# Altium integrated library Wurth_Elektronik_Passive_rev16a.IntLib: 1143 symbols (part 19 of 28)
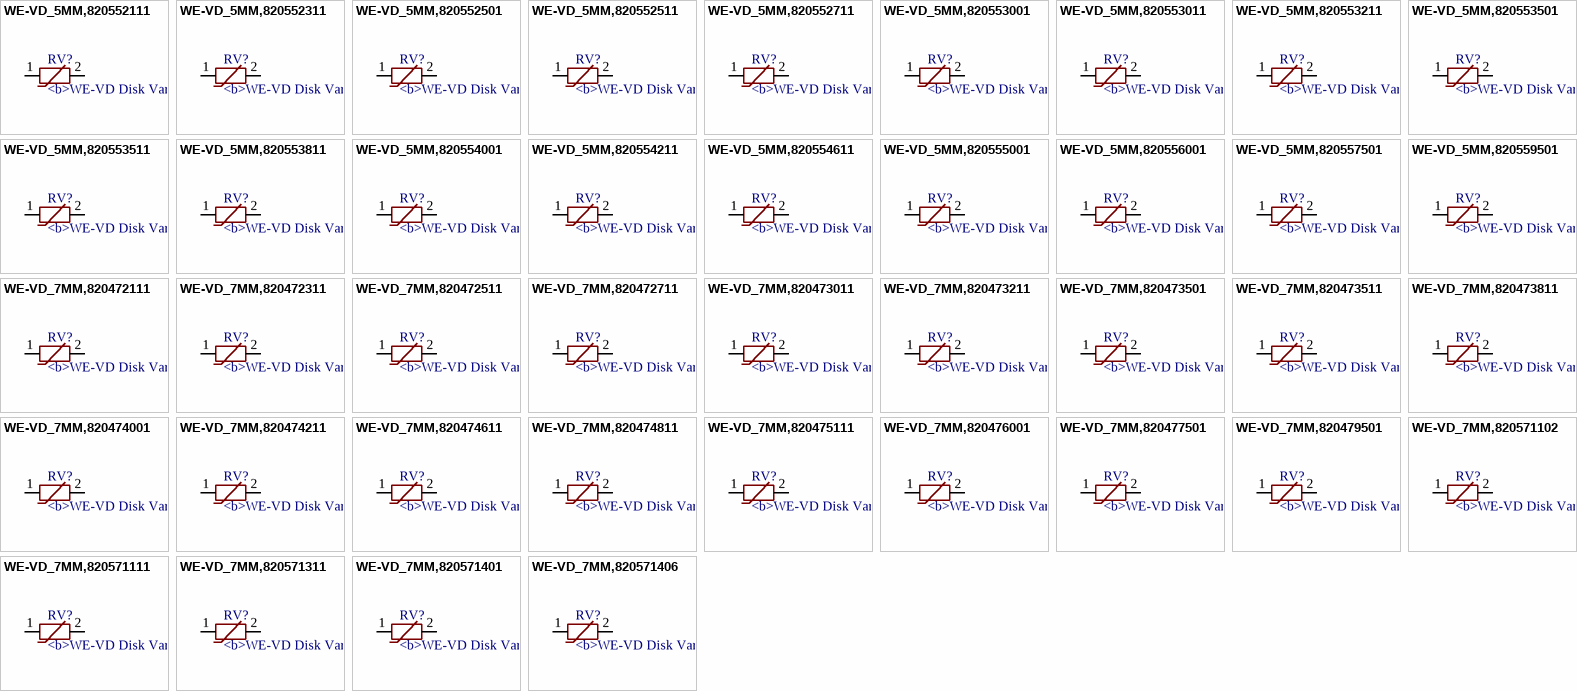
[diagram p76: symbols WE-VD_5MM,820552111 to WE-VD_7MM,820571406]

## WE-VD_5MM,820552711
designator RV?, comment <b>WE-VD Disk Varistor / <br> / <br> / <br><b>Characteristics / <br> / <br></b></b> Low clamping voltage / <br> / <br> After a surge impulse the varistor works immediately in normal mode so there is no slip current / <br> / <br> Excellent absorption at surge impulses / <br> / <br> Operating temperature: –40 ºC to +85 ºC for types up to 95 VRMS –40 ºC to +125 ºC for types from 115 VRMS / <br> / <br> Response time < 25 ns / <br> / <br> UL1449 3rd Edition, CSA and VDE approved UL: File E332875 CSA: File 224856 VDE: File 40016986 and 40016998 IEC: 60950-1: 2005 Annex Q from ∅ 10 mm / <br> / <br> / <br><b> Applications / <br> / <br></b> 12–48 VDC distribution / <br> / <br> 110–400 V power supply / <br> / <br> Leakage of voltage peaks / <br> / <br> Surge protection in accordance with EN 61000-4-5 / <br> / <br> / <br> / <br><a href="http://katalog.we-online.de/media/images/eisos/VarVD_pf2.jpg" title="Enlarge picture"> / <img src="http://katalog.we-online.de/media/images/eisos/VarVD_pf2.jpg" width="320"></a><p> / Details see: <a href="http://katalog.we-online.de/en/pbs/WE-VD?">http://katalog.we-online.de/en/pbs/WE-VD?</a><p> / Updated  by  Dan Xu 2014-07-11<br> / 2014 (C) Wurth Elektronik
MANUFACTURER: Würth Elektronik eiSos GmbH; CREATED-BY: Christin Zierenner; COMPANY-URL: http://www.we-online.de; CREATED-DATE: May 2012; DATASHEET-URL: http://katalog.we-online.de/kataloge/eisos/media/pdf/820552711.pdf
footprint WE-VD_5MM-1.5
pins: 1, 2

## WE-VD_5MM,820553001
designator RV?, comment <b>WE-VD Disk Varistor / <br> / <br> / <br><b>Characteristics / <br> / <br></b></b> Low clamping voltage / <br> / <br> After a surge impulse the varistor works immediately in normal mode so there is no slip current / <br> / <br> Excellent absorption at surge impulses / <br> / <br> Operating temperature: –40 ºC to +85 ºC for types up to 95 VRMS –40 ºC to +125 ºC for types from 115 VRMS / <br> / <br> Response time < 25 ns / <br> / <br> UL1449 3rd Edition, CSA and VDE approved UL: File E332875 CSA: File 224856 VDE: File 40016986 and 40016998 IEC: 60950-1: 2005 Annex Q from ∅ 10 mm / <br> / <br> / <br><b> Applications / <br> / <br></b> 12–48 VDC distribution / <br> / <br> 110–400 V power supply / <br> / <br> Leakage of voltage peaks / <br> / <br> Surge protection in accordance with EN 61000-4-5 / <br> / <br> / <br> / <br><a href="http://katalog.we-online.de/media/images/eisos/VarVD_pf2.jpg" title="Enlarge picture"> / <img src="http://katalog.we-online.de/media/images/eisos/VarVD_pf2.jpg" width="320"></a><p> / Details see: <a href="http://katalog.we-online.de/en/pbs/WE-VD?">http://katalog.we-online.de/en/pbs/WE-VD?</a><p> / Updated  by  Dan Xu 2014-07-11<br> / 2014 (C) Wurth Elektronik
MANUFACTURER: Würth Elektronik eiSos GmbH; CREATED-BY: Christin Zierenner; COMPANY-URL: http://www.we-online.de; CREATED-DATE: May 2012; DATASHEET-URL: http://katalog.we-online.de/kataloge/eisos/index.php?language=en&pf=WE-VD
footprint WE-VD_5MM-DIA
pins: 1, 2

## WE-VD_5MM,820553011
designator RV?, comment <b>WE-VD Disk Varistor / <br> / <br> / <br><b>Characteristics / <br> / <br></b></b> Low clamping voltage / <br> / <br> After a surge impulse the varistor works immediately in normal mode so there is no slip current / <br> / <br> Excellent absorption at surge impulses / <br> / <br> Operating temperature: –40 ºC to +85 ºC for types up to 95 VRMS –40 ºC to +125 ºC for types from 115 VRMS / <br> / <br> Response time < 25 ns / <br> / <br> UL1449 3rd Edition, CSA and VDE approved UL: File E332875 CSA: File 224856 VDE: File 40016986 and 40016998 IEC: 60950-1: 2005 Annex Q from ∅ 10 mm / <br> / <br> / <br><b> Applications / <br> / <br></b> 12–48 VDC distribution / <br> / <br> 110–400 V power supply / <br> / <br> Leakage of voltage peaks / <br> / <br> Surge protection in accordance with EN 61000-4-5 / <br> / <br> / <br> / <br><a href="http://katalog.we-online.de/media/images/eisos/VarVD_pf2.jpg" title="Enlarge picture"> / <img src="http://katalog.we-online.de/media/images/eisos/VarVD_pf2.jpg" width="320"></a><p> / Details see: <a href="http://katalog.we-online.de/en/pbs/WE-VD?">http://katalog.we-online.de/en/pbs/WE-VD?</a><p> / Updated  by  Dan Xu 2014-07-11<br> / 2014 (C) Wurth Elektronik
MANUFACTURER: Würth Elektronik eiSos GmbH; CREATED-BY: Christin Zierenner; COMPANY-URL: http://www.we-online.de; CREATED-DATE: May 2012; DATASHEET-URL: http://katalog.we-online.de/kataloge/eisos/index.php?language=en&pf=WE-VD
footprint WE-VD_5MM-1.7
pins: 1, 2

## WE-VD_5MM,820553211
designator RV?, comment <b>WE-VD Disk Varistor / <br> / <br> / <br><b>Characteristics / <br> / <br></b></b> Low clamping voltage / <br> / <br> After a surge impulse the varistor works immediately in normal mode so there is no slip current / <br> / <br> Excellent absorption at surge impulses / <br> / <br> Operating temperature: –40 ºC to +85 ºC for types up to 95 VRMS –40 ºC to +125 ºC for types from 115 VRMS / <br> / <br> Response time < 25 ns / <br> / <br> UL1449 3rd Edition, CSA and VDE approved UL: File E332875 CSA: File 224856 VDE: File 40016986 and 40016998 IEC: 60950-1: 2005 Annex Q from ∅ 10 mm / <br> / <br> / <br><b> Applications / <br> / <br></b> 12–48 VDC distribution / <br> / <br> 110–400 V power supply / <br> / <br> Leakage of voltage peaks / <br> / <br> Surge protection in accordance with EN 61000-4-5 / <br> / <br> / <br> / <br><a href="http://katalog.we-online.de/media/images/eisos/VarVD_pf2.jpg" title="Enlarge picture"> / <img src="http://katalog.we-online.de/media/images/eisos/VarVD_pf2.jpg" width="320"></a><p> / Details see: <a href="http://katalog.we-online.de/en/pbs/WE-VD?">http://katalog.we-online.de/en/pbs/WE-VD?</a><p> / Updated  by  Dan Xu 2014-07-11<br> / 2014 (C) Wurth Elektronik
MANUFACTURER: Würth Elektronik eiSos GmbH; CREATED-BY: Christin Zierenner; COMPANY-URL: http://www.we-online.de; CREATED-DATE: May 2012; DATASHEET-URL: http://katalog.we-online.de/kataloge/eisos/index.php?language=en&pf=WE-VD
footprint WE-VD_5MM-1.8
pins: 1, 2

## WE-VD_5MM,820553501
designator RV?, comment <b>WE-VD Disk Varistor / <br> / <br> / <br><b>Characteristics / <br> / <br></b></b> Low clamping voltage / <br> / <br> After a surge impulse the varistor works immediately in normal mode so there is no slip current / <br> / <br> Excellent absorption at surge impulses / <br> / <br> Operating temperature: –40 ºC to +85 ºC for types up to 95 VRMS –40 ºC to +125 ºC for types from 115 VRMS / <br> / <br> Response time < 25 ns / <br> / <br> UL1449 3rd Edition, CSA and VDE approved UL: File E332875 CSA: File 224856 VDE: File 40016986 and 40016998 IEC: 60950-1: 2005 Annex Q from ∅ 10 mm / <br> / <br> / <br><b> Applications / <br> / <br></b> 12–48 VDC distribution / <br> / <br> 110–400 V power supply / <br> / <br> Leakage of voltage peaks / <br> / <br> Surge protection in accordance with EN 61000-4-5 / <br> / <br> / <br> / <br><a href="http://katalog.we-online.de/media/images/eisos/VarVD_pf2.jpg" title="Enlarge picture"> / <img src="http://katalog.we-online.de/media/images/eisos/VarVD_pf2.jpg" width="320"></a><p> / Details see: <a href="http://katalog.we-online.de/en/pbs/WE-VD?">http://katalog.we-online.de/en/pbs/WE-VD?</a><p> / Updated  by  Dan Xu 2014-07-11<br> / 2014 (C) Wurth Elektronik
MANUFACTURER: Würth Elektronik eiSos GmbH; CREATED-BY: Christin Zierenner; COMPANY-URL: http://www.we-online.de; CREATED-DATE: May 2012; DATASHEET-URL: http://katalog.we-online.de/kataloge/eisos/index.php?language=en&pf=WE-VD
footprint WE-VD_5MM-1.1
pins: 1, 2

## WE-VD_5MM,820553511
designator RV?, comment <b>WE-VD Disk Varistor / <br> / <br> / <br><b>Characteristics / <br> / <br></b></b> Low clamping voltage / <br> / <br> After a surge impulse the varistor works immediately in normal mode so there is no slip current / <br> / <br> Excellent absorption at surge impulses / <br> / <br> Operating temperature: –40 ºC to +85 ºC for types up to 95 VRMS –40 ºC to +125 ºC for types from 115 VRMS / <br> / <br> Response time < 25 ns / <br> / <br> UL1449 3rd Edition, CSA and VDE approved UL: File E332875 CSA: File 224856 VDE: File 40016986 and 40016998 IEC: 60950-1: 2005 Annex Q from ∅ 10 mm / <br> / <br> / <br><b> Applications / <br> / <br></b> 12–48 VDC distribution / <br> / <br> 110–400 V power supply / <br> / <br> Leakage of voltage peaks / <br> / <br> Surge protection in accordance with EN 61000-4-5 / <br> / <br> / <br> / <br><a href="http://katalog.we-online.de/media/images/eisos/VarVD_pf2.jpg" title="Enlarge picture"> / <img src="http://katalog.we-online.de/media/images/eisos/VarVD_pf2.jpg" width="320"></a><p> / Details see: <a href="http://katalog.we-online.de/en/pbs/WE-VD?">http://katalog.we-online.de/en/pbs/WE-VD?</a><p> / Updated  by  Dan Xu 2014-07-11<br> / 2014 (C) Wurth Elektronik
MANUFACTURER: Würth Elektronik eiSos GmbH; CREATED-BY: Christin Zierenner; COMPANY-URL: http://www.we-online.de; CREATED-DATE: May 2012; DATASHEET-URL: http://katalog.we-online.de/kataloge/eisos/index.php?language=en&pf=WE-VD
footprint WE-VD_5MM-2.1
pins: 1, 2

## WE-VD_5MM,820553811
designator RV?, comment <b>WE-VD Disk Varistor / <br> / <br> / <br><b>Characteristics / <br> / <br></b></b> Low clamping voltage / <br> / <br> After a surge impulse the varistor works immediately in normal mode so there is no slip current / <br> / <br> Excellent absorption at surge impulses / <br> / <br> Operating temperature: –40 ºC to +85 ºC for types up to 95 VRMS –40 ºC to +125 ºC for types from 115 VRMS / <br> / <br> Response time < 25 ns / <br> / <br> UL1449 3rd Edition, CSA and VDE approved UL: File E332875 CSA: File 224856 VDE: File 40016986 and 40016998 IEC: 60950-1: 2005 Annex Q from ∅ 10 mm / <br> / <br> / <br><b> Applications / <br> / <br></b> 12–48 VDC distribution / <br> / <br> 110–400 V power supply / <br> / <br> Leakage of voltage peaks / <br> / <br> Surge protection in accordance with EN 61000-4-5 / <br> / <br> / <br> / <br><a href="http://katalog.we-online.de/media/images/eisos/VarVD_pf2.jpg" title="Enlarge picture"> / <img src="http://katalog.we-online.de/media/images/eisos/VarVD_pf2.jpg" width="320"></a><p> / Details see: <a href="http://katalog.we-online.de/en/pbs/WE-VD?">http://katalog.we-online.de/en/pbs/WE-VD?</a><p> / Updated  by  Dan Xu 2014-07-11<br> / 2014 (C) Wurth Elektronik
MANUFACTURER: Würth Elektronik eiSos GmbH; CREATED-BY: Christin Zierenner; COMPANY-URL: http://www.we-online.de; CREATED-DATE: May 2012; DATASHEET-URL: http://katalog.we-online.de/kataloge/eisos/media/pdf/820553811.pdf
footprint WE-VD_5MM-2.4
pins: 1, 2

## WE-VD_5MM,820554001
designator RV?, comment <b>WE-VD Disk Varistor / <br> / <br> / <br><b>Characteristics / <br> / <br></b></b> Low clamping voltage / <br> / <br> After a surge impulse the varistor works immediately in normal mode so there is no slip current / <br> / <br> Excellent absorption at surge impulses / <br> / <br> Operating temperature: –40 ºC to +85 ºC for types up to 95 VRMS –40 ºC to +125 ºC for types from 115 VRMS / <br> / <br> Response time < 25 ns / <br> / <br> UL1449 3rd Edition, CSA and VDE approved UL: File E332875 CSA: File 224856 VDE: File 40016986 and 40016998 IEC: 60950-1: 2005 Annex Q from ∅ 10 mm / <br> / <br> / <br><b> Applications / <br> / <br></b> 12–48 VDC distribution / <br> / <br> 110–400 V power supply / <br> / <br> Leakage of voltage peaks / <br> / <br> Surge protection in accordance with EN 61000-4-5 / <br> / <br> / <br> / <br><a href="http://katalog.we-online.de/media/images/eisos/VarVD_pf2.jpg" title="Enlarge picture"> / <img src="http://katalog.we-online.de/media/images/eisos/VarVD_pf2.jpg" width="320"></a><p> / Details see: <a href="http://katalog.we-online.de/en/pbs/WE-VD?">http://katalog.we-online.de/en/pbs/WE-VD?</a><p> / Updated  by  Dan Xu 2014-07-11<br> / 2014 (C) Wurth Elektronik
MANUFACTURER: Würth Elektronik eiSos GmbH; CREATED-BY: Christin Zierenner; COMPANY-URL: http://www.we-online.de; CREATED-DATE: May 2012; DATASHEET-URL: http://katalog.we-online.de/kataloge/eisos/media/pdf/820554001.pdf
footprint WE-VD_5MM-1.5
pins: 1, 2

## WE-VD_5MM,820554211
designator RV?, comment <b>WE-VD Disk Varistor / <br> / <br> / <br><b>Characteristics / <br> / <br></b></b> Low clamping voltage / <br> / <br> After a surge impulse the varistor works immediately in normal mode so there is no slip current / <br> / <br> Excellent absorption at surge impulses / <br> / <br> Operating temperature: –40 ºC to +85 ºC for types up to 95 VRMS –40 ºC to +125 ºC for types from 115 VRMS / <br> / <br> Response time < 25 ns / <br> / <br> UL1449 3rd Edition, CSA and VDE approved UL: File E332875 CSA: File 224856 VDE: File 40016986 and 40016998 IEC: 60950-1: 2005 Annex Q from ∅ 10 mm / <br> / <br> / <br><b> Applications / <br> / <br></b> 12–48 VDC distribution / <br> / <br> 110–400 V power supply / <br> / <br> Leakage of voltage peaks / <br> / <br> Surge protection in accordance with EN 61000-4-5 / <br> / <br> / <br> / <br><a href="http://katalog.we-online.de/media/images/eisos/VarVD_pf2.jpg" title="Enlarge picture"> / <img src="http://katalog.we-online.de/media/images/eisos/VarVD_pf2.jpg" width="320"></a><p> / Details see: <a href="http://katalog.we-online.de/en/pbs/WE-VD?">http://katalog.we-online.de/en/pbs/WE-VD?</a><p> / Updated  by  Dan Xu 2014-07-11<br> / 2014 (C) Wurth Elektronik
MANUFACTURER: Würth Elektronik eiSos GmbH; CREATED-BY: Christin Zierenner; COMPANY-URL: http://www.we-online.de; CREATED-DATE: May 2012; DATASHEET-URL: http://katalog.we-online.de/kataloge/eisos/index.php?language=en&pf=WE-VD
footprint WE-VD_5MM-2.7
pins: 1, 2

## WE-VD_5MM,820554611
designator RV?, comment <b>WE-VD Disk Varistor / <br> / <br> / <br><b>Characteristics / <br> / <br></b></b> Low clamping voltage / <br> / <br> After a surge impulse the varistor works immediately in normal mode so there is no slip current / <br> / <br> Excellent absorption at surge impulses / <br> / <br> Operating temperature: –40 ºC to +85 ºC for types up to 95 VRMS –40 ºC to +125 ºC for types from 115 VRMS / <br> / <br> Response time < 25 ns / <br> / <br> UL1449 3rd Edition, CSA and VDE approved UL: File E332875 CSA: File 224856 VDE: File 40016986 and 40016998 IEC: 60950-1: 2005 Annex Q from ∅ 10 mm / <br> / <br> / <br><b> Applications / <br> / <br></b> 12–48 VDC distribution / <br> / <br> 110–400 V power supply / <br> / <br> Leakage of voltage peaks / <br> / <br> Surge protection in accordance with EN 61000-4-5 / <br> / <br> / <br> / <br><a href="http://katalog.we-online.de/media/images/eisos/VarVD_pf2.jpg" title="Enlarge picture"> / <img src="http://katalog.we-online.de/media/images/eisos/VarVD_pf2.jpg" width="320"></a><p> / Details see: <a href="http://katalog.we-online.de/en/pbs/WE-VD?">http://katalog.we-online.de/en/pbs/WE-VD?</a><p> / Updated  by  Dan Xu 2014-07-11<br> / 2014 (C) Wurth Elektronik
MANUFACTURER: Würth Elektronik eiSos GmbH; CREATED-BY: Christin Zierenner; COMPANY-URL: http://www.we-online.de; CREATED-DATE: May 2012; DATASHEET-URL: http://katalog.we-online.de/kataloge/eisos/media/pdf/820554611.pdf
footprint WE-VD_5MM-3.0
pins: 1, 2

## WE-VD_5MM,820555001
designator RV?, comment <b>WE-VD Disk Varistor / <br> / <br> / <br><b>Characteristics / <br> / <br></b></b> Low clamping voltage / <br> / <br> After a surge impulse the varistor works immediately in normal mode so there is no slip current / <br> / <br> Excellent absorption at surge impulses / <br> / <br> Operating temperature: –40 ºC to +85 ºC for types up to 95 VRMS –40 ºC to +125 ºC for types from 115 VRMS / <br> / <br> Response time < 25 ns / <br> / <br> UL1449 3rd Edition, CSA and VDE approved UL: File E332875 CSA: File 224856 VDE: File 40016986 and 40016998 IEC: 60950-1: 2005 Annex Q from ∅ 10 mm / <br> / <br> / <br><b> Applications / <br> / <br></b> 12–48 VDC distribution / <br> / <br> 110–400 V power supply / <br> / <br> Leakage of voltage peaks / <br> / <br> Surge protection in accordance with EN 61000-4-5 / <br> / <br> / <br> / <br><a href="http://katalog.we-online.de/media/images/eisos/VarVD_pf2.jpg" title="Enlarge picture"> / <img src="http://katalog.we-online.de/media/images/eisos/VarVD_pf2.jpg" width="320"></a><p> / Details see: <a href="http://katalog.we-online.de/en/pbs/WE-VD?">http://katalog.we-online.de/en/pbs/WE-VD?</a><p> / Updated  by  Dan Xu 2014-07-11<br> / 2014 (C) Wurth Elektronik
MANUFACTURER: Würth Elektronik eiSos GmbH; CREATED-BY: Christin Zierenner; COMPANY-URL: http://www.we-online.de; CREATED-DATE: May 2012; DATASHEET-URL: http://katalog.we-online.de/kataloge/eisos/index.php?language=en&pf=WE-VD
footprint WE-VD_5MM-DIA
pins: 1, 2

## WE-VD_5MM,820556001
designator RV?, comment <b>WE-VD Disk Varistor / <br> / <br> / <br><b>Characteristics / <br> / <br></b></b> Low clamping voltage / <br> / <br> After a surge impulse the varistor works immediately in normal mode so there is no slip current / <br> / <br> Excellent absorption at surge impulses / <br> / <br> Operating temperature: –40 ºC to +85 ºC for types up to 95 VRMS –40 ºC to +125 ºC for types from 115 VRMS / <br> / <br> Response time < 25 ns / <br> / <br> UL1449 3rd Edition, CSA and VDE approved UL: File E332875 CSA: File 224856 VDE: File 40016986 and 40016998 IEC: 60950-1: 2005 Annex Q from ∅ 10 mm / <br> / <br> / <br><b> Applications / <br> / <br></b> 12–48 VDC distribution / <br> / <br> 110–400 V power supply / <br> / <br> Leakage of voltage peaks / <br> / <br> Surge protection in accordance with EN 61000-4-5 / <br> / <br> / <br> / <br><a href="http://katalog.we-online.de/media/images/eisos/VarVD_pf2.jpg" title="Enlarge picture"> / <img src="http://katalog.we-online.de/media/images/eisos/VarVD_pf2.jpg" width="320"></a><p> / Details see: <a href="http://katalog.we-online.de/en/pbs/WE-VD?">http://katalog.we-online.de/en/pbs/WE-VD?</a><p> / Updated  by  Dan Xu 2014-07-11<br> / 2014 (C) Wurth Elektronik
MANUFACTURER: Würth Elektronik eiSos GmbH; CREATED-BY: Christin Zierenner; COMPANY-URL: http://www.we-online.de; CREATED-DATE: May 2012; DATASHEET-URL: http://katalog.we-online.de/kataloge/eisos/media/pdf/820556001.pdf
footprint WE-VD_5MM-DIA
pins: 1, 2

## WE-VD_5MM,820557501
designator RV?, comment <b>WE-VD Disk Varistor / <br> / <br> / <br><b>Characteristics / <br> / <br></b></b> Low clamping voltage / <br> / <br> After a surge impulse the varistor works immediately in normal mode so there is no slip current / <br> / <br> Excellent absorption at surge impulses / <br> / <br> Operating temperature: –40 ºC to +85 ºC for types up to 95 VRMS –40 ºC to +125 ºC for types from 115 VRMS / <br> / <br> Response time < 25 ns / <br> / <br> UL1449 3rd Edition, CSA and VDE approved UL: File E332875 CSA: File 224856 VDE: File 40016986 and 40016998 IEC: 60950-1: 2005 Annex Q from ∅ 10 mm / <br> / <br> / <br><b> Applications / <br> / <br></b> 12–48 VDC distribution / <br> / <br> 110–400 V power supply / <br> / <br> Leakage of voltage peaks / <br> / <br> Surge protection in accordance with EN 61000-4-5 / <br> / <br> / <br> / <br><a href="http://katalog.we-online.de/media/images/eisos/VarVD_pf2.jpg" title="Enlarge picture"> / <img src="http://katalog.we-online.de/media/images/eisos/VarVD_pf2.jpg" width="320"></a><p> / Details see: <a href="http://katalog.we-online.de/en/pbs/WE-VD?">http://katalog.we-online.de/en/pbs/WE-VD?</a><p> / Updated  by  Dan Xu 2014-07-11<br> / 2014 (C) Wurth Elektronik
MANUFACTURER: Würth Elektronik eiSos GmbH; CREATED-BY: Christin Zierenner; COMPANY-URL: http://www.we-online.de; CREATED-DATE: May 2012; DATASHEET-URL: http://katalog.we-online.de/kataloge/eisos/index.php?language=en&pf=WE-VD
footprint WE-VD_5MM-DIA
pins: 1, 2

## WE-VD_5MM,820559501
designator RV?, comment <b>WE-VD Disk Varistor / <br> / <br> / <br><b>Characteristics / <br> / <br></b></b> Low clamping voltage / <br> / <br> After a surge impulse the varistor works immediately in normal mode so there is no slip current / <br> / <br> Excellent absorption at surge impulses / <br> / <br> Operating temperature: –40 ºC to +85 ºC for types up to 95 VRMS –40 ºC to +125 ºC for types from 115 VRMS / <br> / <br> Response time < 25 ns / <br> / <br> UL1449 3rd Edition, CSA and VDE approved UL: File E332875 CSA: File 224856 VDE: File 40016986 and 40016998 IEC: 60950-1: 2005 Annex Q from ∅ 10 mm / <br> / <br> / <br><b> Applications / <br> / <br></b> 12–48 VDC distribution / <br> / <br> 110–400 V power supply / <br> / <br> Leakage of voltage peaks / <br> / <br> Surge protection in accordance with EN 61000-4-5 / <br> / <br> / <br> / <br><a href="http://katalog.we-online.de/media/images/eisos/VarVD_pf2.jpg" title="Enlarge picture"> / <img src="http://katalog.we-online.de/media/images/eisos/VarVD_pf2.jpg" width="320"></a><p> / Details see: <a href="http://katalog.we-online.de/en/pbs/WE-VD?">http://katalog.we-online.de/en/pbs/WE-VD?</a><p> / Updated  by  Dan Xu 2014-07-11<br> / 2014 (C) Wurth Elektronik
MANUFACTURER: Würth Elektronik eiSos GmbH; CREATED-BY: Christin Zierenner; COMPANY-URL: http://www.we-online.de; CREATED-DATE: May 2012; DATASHEET-URL: http://katalog.we-online.de/kataloge/eisos/index.php?language=en&pf=WE-VD
footprint WE-VD_5MM-DIA
pins: 1, 2

## WE-VD_7MM,820472111
designator RV?, comment <b>WE-VD Disk Varistor / <br> / <br> / <br><b>Characteristics / <br> / <br></b></b> Low clamping voltage / <br> / <br> After a surge impulse the varistor works immediately in normal mode so there is no slip current / <br> / <br> Excellent absorption at surge impulses / <br> / <br> Operating temperature: –40 ºC to +85 ºC for types up to 95 VRMS –40 ºC to +125 ºC for types from 115 VRMS / <br> / <br> Response time < 25 ns / <br> / <br> UL1449 3rd Edition, CSA and VDE approved UL: File E332875 CSA: File 224856 VDE: File 40016986 and 40016998 IEC: 60950-1: 2005 Annex Q from ∅ 10 mm / <br> / <br> / <br><b> Applications / <br> / <br></b> 12–48 VDC distribution / <br> / <br> 110–400 V power supply / <br> / <br> Leakage of voltage peaks / <br> / <br> Surge protection in accordance with EN 61000-4-5 / <br> / <br> / <br> / <br><a href="http://katalog.we-online.de/media/images/eisos/VarVD_pf2.jpg" title="Enlarge picture"> / <img src="http://katalog.we-online.de/media/images/eisos/VarVD_pf2.jpg" width="320"></a><p> / Details see: <a href="http://katalog.we-online.de/en/pbs/WE-VD?">http://katalog.we-online.de/en/pbs/WE-VD?</a><p> / Updated  by  Dan Xu 2014-07-11<br> / 2014 (C) Wurth Elektronik
MANUFACTURER: Würth Elektronik eiSos GmbH; CREATED-BY: Christin Zierenner; COMPANY-URL: http://www.we-online.de; CREATED-DATE: May 2012; DATASHEET-URL: http://katalog.we-online.de/kataloge/eisos/index.php?language=en&pf=WE-VD
footprint WE-VD_7MM-1.0
pins: 1, 2

## WE-VD_7MM,820472311
designator RV?, comment <b>WE-VD Disk Varistor / <br> / <br> / <br><b>Characteristics / <br> / <br></b></b> Low clamping voltage / <br> / <br> After a surge impulse the varistor works immediately in normal mode so there is no slip current / <br> / <br> Excellent absorption at surge impulses / <br> / <br> Operating temperature: –40 ºC to +85 ºC for types up to 95 VRMS –40 ºC to +125 ºC for types from 115 VRMS / <br> / <br> Response time < 25 ns / <br> / <br> UL1449 3rd Edition, CSA and VDE approved UL: File E332875 CSA: File 224856 VDE: File 40016986 and 40016998 IEC: 60950-1: 2005 Annex Q from ∅ 10 mm / <br> / <br> / <br><b> Applications / <br> / <br></b> 12–48 VDC distribution / <br> / <br> 110–400 V power supply / <br> / <br> Leakage of voltage peaks / <br> / <br> Surge protection in accordance with EN 61000-4-5 / <br> / <br> / <br> / <br><a href="http://katalog.we-online.de/media/images/eisos/VarVD_pf2.jpg" title="Enlarge picture"> / <img src="http://katalog.we-online.de/media/images/eisos/VarVD_pf2.jpg" width="320"></a><p> / Details see: <a href="http://katalog.we-online.de/en/pbs/WE-VD?">http://katalog.we-online.de/en/pbs/WE-VD?</a><p> / Updated  by  Dan Xu 2014-07-11<br> / 2014 (C) Wurth Elektronik
MANUFACTURER: Würth Elektronik eiSos GmbH; CREATED-BY: Christin Zierenner; COMPANY-URL: http://www.we-online.de; CREATED-DATE: May 2012; DATASHEET-URL: http://katalog.we-online.de/kataloge/eisos/index.php?language=en&pf=WE-VD
footprint WE-VD_7MM-1.1
pins: 1, 2

## WE-VD_7MM,820472511
designator RV?, comment <b>WE-VD Disk Varistor / <br> / <br> / <br><b>Characteristics / <br> / <br></b></b> Low clamping voltage / <br> / <br> After a surge impulse the varistor works immediately in normal mode so there is no slip current / <br> / <br> Excellent absorption at surge impulses / <br> / <br> Operating temperature: –40 ºC to +85 ºC for types up to 95 VRMS –40 ºC to +125 ºC for types from 115 VRMS / <br> / <br> Response time < 25 ns / <br> / <br> UL1449 3rd Edition, CSA and VDE approved UL: File E332875 CSA: File 224856 VDE: File 40016986 and 40016998 IEC: 60950-1: 2005 Annex Q from ∅ 10 mm / <br> / <br> / <br><b> Applications / <br> / <br></b> 12–48 VDC distribution / <br> / <br> 110–400 V power supply / <br> / <br> Leakage of voltage peaks / <br> / <br> Surge protection in accordance with EN 61000-4-5 / <br> / <br> / <br> / <br><a href="http://katalog.we-online.de/media/images/eisos/VarVD_pf2.jpg" title="Enlarge picture"> / <img src="http://katalog.we-online.de/media/images/eisos/VarVD_pf2.jpg" width="320"></a><p> / Details see: <a href="http://katalog.we-online.de/en/pbs/WE-VD?">http://katalog.we-online.de/en/pbs/WE-VD?</a><p> / Updated  by  Dan Xu 2014-07-11<br> / 2014 (C) Wurth Elektronik
MANUFACTURER: Würth Elektronik eiSos GmbH; CREATED-BY: Christin Zierenner; COMPANY-URL: http://www.we-online.de; CREATED-DATE: May 2012; DATASHEET-URL: http://katalog.we-online.de/kataloge/eisos/index.php?language=en&pf=WE-VD
footprint WE-VD_7MM-1.3
pins: 1, 2

## WE-VD_7MM,820472711
designator RV?, comment <b>WE-VD Disk Varistor / <br> / <br> / <br><b>Characteristics / <br> / <br></b></b> Low clamping voltage / <br> / <br> After a surge impulse the varistor works immediately in normal mode so there is no slip current / <br> / <br> Excellent absorption at surge impulses / <br> / <br> Operating temperature: –40 ºC to +85 ºC for types up to 95 VRMS –40 ºC to +125 ºC for types from 115 VRMS / <br> / <br> Response time < 25 ns / <br> / <br> UL1449 3rd Edition, CSA and VDE approved UL: File E332875 CSA: File 224856 VDE: File 40016986 and 40016998 IEC: 60950-1: 2005 Annex Q from ∅ 10 mm / <br> / <br> / <br><b> Applications / <br> / <br></b> 12–48 VDC distribution / <br> / <br> 110–400 V power supply / <br> / <br> Leakage of voltage peaks / <br> / <br> Surge protection in accordance with EN 61000-4-5 / <br> / <br> / <br> / <br><a href="http://katalog.we-online.de/media/images/eisos/VarVD_pf2.jpg" title="Enlarge picture"> / <img src="http://katalog.we-online.de/media/images/eisos/VarVD_pf2.jpg" width="320"></a><p> / Details see: <a href="http://katalog.we-online.de/en/pbs/WE-VD?">http://katalog.we-online.de/en/pbs/WE-VD?</a><p> / Updated  by  Dan Xu 2014-07-11<br> / 2014 (C) Wurth Elektronik
MANUFACTURER: Würth Elektronik eiSos GmbH; CREATED-BY: Christin Zierenner; COMPANY-URL: http://www.we-online.de; CREATED-DATE: May 2012; DATASHEET-URL: http://katalog.we-online.de/kataloge/eisos/index.php?language=en&pf=WE-VD
footprint WE-VD_7MM-1.5
pins: 1, 2

## WE-VD_7MM,820473011
designator RV?, comment <b>WE-VD Disk Varistor / <br> / <br> / <br><b>Characteristics / <br> / <br></b></b> Low clamping voltage / <br> / <br> After a surge impulse the varistor works immediately in normal mode so there is no slip current / <br> / <br> Excellent absorption at surge impulses / <br> / <br> Operating temperature: –40 ºC to +85 ºC for types up to 95 VRMS –40 ºC to +125 ºC for types from 115 VRMS / <br> / <br> Response time < 25 ns / <br> / <br> UL1449 3rd Edition, CSA and VDE approved UL: File E332875 CSA: File 224856 VDE: File 40016986 and 40016998 IEC: 60950-1: 2005 Annex Q from ∅ 10 mm / <br> / <br> / <br><b> Applications / <br> / <br></b> 12–48 VDC distribution / <br> / <br> 110–400 V power supply / <br> / <br> Leakage of voltage peaks / <br> / <br> Surge protection in accordance with EN 61000-4-5 / <br> / <br> / <br> / <br><a href="http://katalog.we-online.de/media/images/eisos/VarVD_pf2.jpg" title="Enlarge picture"> / <img src="http://katalog.we-online.de/media/images/eisos/VarVD_pf2.jpg" width="320"></a><p> / Details see: <a href="http://katalog.we-online.de/en/pbs/WE-VD?">http://katalog.we-online.de/en/pbs/WE-VD?</a><p> / Updated  by  Dan Xu 2014-07-11<br> / 2014 (C) Wurth Elektronik
MANUFACTURER: Würth Elektronik eiSos GmbH; CREATED-BY: Christin Zierenner; COMPANY-URL: http://www.we-online.de; CREATED-DATE: May 2012; DATASHEET-URL: http://katalog.we-online.de/kataloge/eisos/index.php?language=en&pf=WE-VD
footprint WE-VD_7MM-1.7
pins: 1, 2

## WE-VD_7MM,820473211
designator RV?, comment <b>WE-VD Disk Varistor / <br> / <br> / <br><b>Characteristics / <br> / <br></b></b> Low clamping voltage / <br> / <br> After a surge impulse the varistor works immediately in normal mode so there is no slip current / <br> / <br> Excellent absorption at surge impulses / <br> / <br> Operating temperature: –40 ºC to +85 ºC for types up to 95 VRMS –40 ºC to +125 ºC for types from 115 VRMS / <br> / <br> Response time < 25 ns / <br> / <br> UL1449 3rd Edition, CSA and VDE approved UL: File E332875 CSA: File 224856 VDE: File 40016986 and 40016998 IEC: 60950-1: 2005 Annex Q from ∅ 10 mm / <br> / <br> / <br><b> Applications / <br> / <br></b> 12–48 VDC distribution / <br> / <br> 110–400 V power supply / <br> / <br> Leakage of voltage peaks / <br> / <br> Surge protection in accordance with EN 61000-4-5 / <br> / <br> / <br> / <br><a href="http://katalog.we-online.de/media/images/eisos/VarVD_pf2.jpg" title="Enlarge picture"> / <img src="http://katalog.we-online.de/media/images/eisos/VarVD_pf2.jpg" width="320"></a><p> / Details see: <a href="http://katalog.we-online.de/en/pbs/WE-VD?">http://katalog.we-online.de/en/pbs/WE-VD?</a><p> / Updated  by  Dan Xu 2014-07-11<br> / 2014 (C) Wurth Elektronik
MANUFACTURER: Würth Elektronik eiSos GmbH; CREATED-BY: Christin Zierenner; COMPANY-URL: http://www.we-online.de; CREATED-DATE: May 2012; DATASHEET-URL: http://katalog.we-online.de/kataloge/eisos/index.php?language=en&pf=WE-VD
footprint WE-VD_7MM-1.8
pins: 1, 2

## WE-VD_7MM,820473501
designator RV?, comment <b>WE-VD Disk Varistor / <br> / <br> / <br><b>Characteristics / <br> / <br></b></b> Low clamping voltage / <br> / <br> After a surge impulse the varistor works immediately in normal mode so there is no slip current / <br> / <br> Excellent absorption at surge impulses / <br> / <br> Operating temperature: –40 ºC to +85 ºC for types up to 95 VRMS –40 ºC to +125 ºC for types from 115 VRMS / <br> / <br> Response time < 25 ns / <br> / <br> UL1449 3rd Edition, CSA and VDE approved UL: File E332875 CSA: File 224856 VDE: File 40016986 and 40016998 IEC: 60950-1: 2005 Annex Q from ∅ 10 mm / <br> / <br> / <br><b> Applications / <br> / <br></b> 12–48 VDC distribution / <br> / <br> 110–400 V power supply / <br> / <br> Leakage of voltage peaks / <br> / <br> Surge protection in accordance with EN 61000-4-5 / <br> / <br> / <br> / <br><a href="http://katalog.we-online.de/media/images/eisos/VarVD_pf2.jpg" title="Enlarge picture"> / <img src="http://katalog.we-online.de/media/images/eisos/VarVD_pf2.jpg" width="320"></a><p> / Details see: <a href="http://katalog.we-online.de/en/pbs/WE-VD?">http://katalog.we-online.de/en/pbs/WE-VD?</a><p> / Updated  by  Dan Xu 2014-07-11<br> / 2014 (C) Wurth Elektronik
MANUFACTURER: Würth Elektronik eiSos GmbH; CREATED-BY: Christin Zierenner; COMPANY-URL: http://www.we-online.de; CREATED-DATE: May 2012; DATASHEET-URL: http://katalog.we-online.de/kataloge/eisos/index.php?language=en&pf=WE-VD
footprint WE-VD_7MM-1.1
pins: 1, 2

## WE-VD_7MM,820473511
designator RV?, comment <b>WE-VD Disk Varistor / <br> / <br> / <br><b>Characteristics / <br> / <br></b></b> Low clamping voltage / <br> / <br> After a surge impulse the varistor works immediately in normal mode so there is no slip current / <br> / <br> Excellent absorption at surge impulses / <br> / <br> Operating temperature: –40 ºC to +85 ºC for types up to 95 VRMS –40 ºC to +125 ºC for types from 115 VRMS / <br> / <br> Response time < 25 ns / <br> / <br> UL1449 3rd Edition, CSA and VDE approved UL: File E332875 CSA: File 224856 VDE: File 40016986 and 40016998 IEC: 60950-1: 2005 Annex Q from ∅ 10 mm / <br> / <br> / <br><b> Applications / <br> / <br></b> 12–48 VDC distribution / <br> / <br> 110–400 V power supply / <br> / <br> Leakage of voltage peaks / <br> / <br> Surge protection in accordance with EN 61000-4-5 / <br> / <br> / <br> / <br><a href="http://katalog.we-online.de/media/images/eisos/VarVD_pf2.jpg" title="Enlarge picture"> / <img src="http://katalog.we-online.de/media/images/eisos/VarVD_pf2.jpg" width="320"></a><p> / Details see: <a href="http://katalog.we-online.de/en/pbs/WE-VD?">http://katalog.we-online.de/en/pbs/WE-VD?</a><p> / Updated  by  Dan Xu 2014-07-11<br> / 2014 (C) Wurth Elektronik
MANUFACTURER: Würth Elektronik eiSos GmbH; CREATED-BY: Christin Zierenner; COMPANY-URL: http://www.we-online.de; CREATED-DATE: May 2012; DATASHEET-URL: http://katalog.we-online.de/kataloge/eisos/index.php?language=en&pf=WE-VD
footprint WE-VD_7MM-2.1
pins: 1, 2

## WE-VD_7MM,820473811
designator RV?, comment <b>WE-VD Disk Varistor / <br> / <br> / <br><b>Characteristics / <br> / <br></b></b> Low clamping voltage / <br> / <br> After a surge impulse the varistor works immediately in normal mode so there is no slip current / <br> / <br> Excellent absorption at surge impulses / <br> / <br> Operating temperature: –40 ºC to +85 ºC for types up to 95 VRMS –40 ºC to +125 ºC for types from 115 VRMS / <br> / <br> Response time < 25 ns / <br> / <br> UL1449 3rd Edition, CSA and VDE approved UL: File E332875 CSA: File 224856 VDE: File 40016986 and 40016998 IEC: 60950-1: 2005 Annex Q from ∅ 10 mm / <br> / <br> / <br><b> Applications / <br> / <br></b> 12–48 VDC distribution / <br> / <br> 110–400 V power supply / <br> / <br> Leakage of voltage peaks / <br> / <br> Surge protection in accordance with EN 61000-4-5 / <br> / <br> / <br> / <br><a href="http://katalog.we-online.de/media/images/eisos/VarVD_pf2.jpg" title="Enlarge picture"> / <img src="http://katalog.we-online.de/media/images/eisos/VarVD_pf2.jpg" width="320"></a><p> / Details see: <a href="http://katalog.we-online.de/en/pbs/WE-VD?">http://katalog.we-online.de/en/pbs/WE-VD?</a><p> / Updated  by  Dan Xu 2014-07-11<br> / 2014 (C) Wurth Elektronik
MANUFACTURER: Würth Elektronik eiSos GmbH; CREATED-BY: Christin Zierenner; COMPANY-URL: http://www.we-online.de; CREATED-DATE: May 2012; DATASHEET-URL: http://katalog.we-online.de/kataloge/eisos/index.php?language=en&pf=WE-VD
footprint WE-VD_7MM-2.4
pins: 1, 2

## WE-VD_7MM,820474001
designator RV?, comment <b>WE-VD Disk Varistor / <br> / <br> / <br><b>Characteristics / <br> / <br></b></b> Low clamping voltage / <br> / <br> After a surge impulse the varistor works immediately in normal mode so there is no slip current / <br> / <br> Excellent absorption at surge impulses / <br> / <br> Operating temperature: –40 ºC to +85 ºC for types up to 95 VRMS –40 ºC to +125 ºC for types from 115 VRMS / <br> / <br> Response time < 25 ns / <br> / <br> UL1449 3rd Edition, CSA and VDE approved UL: File E332875 CSA: File 224856 VDE: File 40016986 and 40016998 IEC: 60950-1: 2005 Annex Q from ∅ 10 mm / <br> / <br> / <br><b> Applications / <br> / <br></b> 12–48 VDC distribution / <br> / <br> 110–400 V power supply / <br> / <br> Leakage of voltage peaks / <br> / <br> Surge protection in accordance with EN 61000-4-5 / <br> / <br> / <br> / <br><a href="http://katalog.we-online.de/media/images/eisos/VarVD_pf2.jpg" title="Enlarge picture"> / <img src="http://katalog.we-online.de/media/images/eisos/VarVD_pf2.jpg" width="320"></a><p> / Details see: <a href="http://katalog.we-online.de/en/pbs/WE-VD?">http://katalog.we-online.de/en/pbs/WE-VD?</a><p> / Updated  by  Dan Xu 2014-07-11<br> / 2014 (C) Wurth Elektronik
MANUFACTURER: Würth Elektronik eiSos GmbH; CREATED-BY: Christin Zierenner; COMPANY-URL: http://www.we-online.de; CREATED-DATE: May 2012; DATASHEET-URL: http://katalog.we-online.de/kataloge/eisos/index.php?language=en&pf=WE-VD
footprint WE-VD_7MM-1.5
pins: 1, 2

## WE-VD_7MM,820474211
designator RV?, comment <b>WE-VD Disk Varistor / <br> / <br> / <br><b>Characteristics / <br> / <br></b></b> Low clamping voltage / <br> / <br> After a surge impulse the varistor works immediately in normal mode so there is no slip current / <br> / <br> Excellent absorption at surge impulses / <br> / <br> Operating temperature: –40 ºC to +85 ºC for types up to 95 VRMS –40 ºC to +125 ºC for types from 115 VRMS / <br> / <br> Response time < 25 ns / <br> / <br> UL1449 3rd Edition, CSA and VDE approved UL: File E332875 CSA: File 224856 VDE: File 40016986 and 40016998 IEC: 60950-1: 2005 Annex Q from ∅ 10 mm / <br> / <br> / <br><b> Applications / <br> / <br></b> 12–48 VDC distribution / <br> / <br> 110–400 V power supply / <br> / <br> Leakage of voltage peaks / <br> / <br> Surge protection in accordance with EN 61000-4-5 / <br> / <br> / <br> / <br><a href="http://katalog.we-online.de/media/images/eisos/VarVD_pf2.jpg" title="Enlarge picture"> / <img src="http://katalog.we-online.de/media/images/eisos/VarVD_pf2.jpg" width="320"></a><p> / Details see: <a href="http://katalog.we-online.de/en/pbs/WE-VD?">http://katalog.we-online.de/en/pbs/WE-VD?</a><p> / Updated  by  Dan Xu 2014-07-11<br> / 2014 (C) Wurth Elektronik
MANUFACTURER: Würth Elektronik eiSos GmbH; CREATED-BY: Christin Zierenner; COMPANY-URL: http://www.we-online.de; CREATED-DATE: May 2012; DATASHEET-URL: http://katalog.we-online.de/kataloge/eisos/media/pdf/820474211.pdf
footprint WE-VD_7MM-2.7
pins: 1, 2

## WE-VD_7MM,820474611
designator RV?, comment <b>WE-VD Disk Varistor / <br> / <br> / <br><b>Characteristics / <br> / <br></b></b> Low clamping voltage / <br> / <br> After a surge impulse the varistor works immediately in normal mode so there is no slip current / <br> / <br> Excellent absorption at surge impulses / <br> / <br> Operating temperature: –40 ºC to +85 ºC for types up to 95 VRMS –40 ºC to +125 ºC for types from 115 VRMS / <br> / <br> Response time < 25 ns / <br> / <br> UL1449 3rd Edition, CSA and VDE approved UL: File E332875 CSA: File 224856 VDE: File 40016986 and 40016998 IEC: 60950-1: 2005 Annex Q from ∅ 10 mm / <br> / <br> / <br><b> Applications / <br> / <br></b> 12–48 VDC distribution / <br> / <br> 110–400 V power supply / <br> / <br> Leakage of voltage peaks / <br> / <br> Surge protection in accordance with EN 61000-4-5 / <br> / <br> / <br> / <br><a href="http://katalog.we-online.de/media/images/eisos/VarVD_pf2.jpg" title="Enlarge picture"> / <img src="http://katalog.we-online.de/media/images/eisos/VarVD_pf2.jpg" width="320"></a><p> / Details see: <a href="http://katalog.we-online.de/en/pbs/WE-VD?">http://katalog.we-online.de/en/pbs/WE-VD?</a><p> / Updated  by  Dan Xu 2014-07-11<br> / 2014 (C) Wurth Elektronik
MANUFACTURER: Würth Elektronik eiSos GmbH; CREATED-BY: Christin Zierenner; COMPANY-URL: http://www.we-online.de; CREATED-DATE: May 2012; DATASHEET-URL: http://katalog.we-online.de/kataloge/eisos/media/pdf/820474611.pdf
footprint WE-VD_7MM-3.0
pins: 1, 2

## WE-VD_7MM,820474811
designator RV?, comment <b>WE-VD Disk Varistor / <br> / <br> / <br><b>Characteristics / <br> / <br></b></b> Low clamping voltage / <br> / <br> After a surge impulse the varistor works immediately in normal mode so there is no slip current / <br> / <br> Excellent absorption at surge impulses / <br> / <br> Operating temperature: –40 ºC to +85 ºC for types up to 95 VRMS –40 ºC to +125 ºC for types from 115 VRMS / <br> / <br> Response time < 25 ns / <br> / <br> UL1449 3rd Edition, CSA and VDE approved UL: File E332875 CSA: File 224856 VDE: File 40016986 and 40016998 IEC: 60950-1: 2005 Annex Q from ∅ 10 mm / <br> / <br> / <br><b> Applications / <br> / <br></b> 12–48 VDC distribution / <br> / <br> 110–400 V power supply / <br> / <br> Leakage of voltage peaks / <br> / <br> Surge protection in accordance with EN 61000-4-5 / <br> / <br> / <br> / <br><a href="http://katalog.we-online.de/media/images/eisos/VarVD_pf2.jpg" title="Enlarge picture"> / <img src="http://katalog.we-online.de/media/images/eisos/VarVD_pf2.jpg" width="320"></a><p> / Details see: <a href="http://katalog.we-online.de/en/pbs/WE-VD?">http://katalog.we-online.de/en/pbs/WE-VD?</a><p> / Updated  by  Dan Xu 2014-07-11<br> / 2014 (C) Wurth Elektronik
MANUFACTURER: Würth Elektronik eiSos GmbH; CREATED-BY: Christin Zierenner; COMPANY-URL: http://www.we-online.de; CREATED-DATE: May 2012; DATASHEET-URL: http://katalog.we-online.de/kataloge/eisos/index.php?language=en&pf=WE-VD
footprint WE-VD_7MM-3.1
pins: 1, 2

## WE-VD_7MM,820475111
designator RV?, comment <b>WE-VD Disk Varistor / <br> / <br> / <br><b>Characteristics / <br> / <br></b></b> Low clamping voltage / <br> / <br> After a surge impulse the varistor works immediately in normal mode so there is no slip current / <br> / <br> Excellent absorption at surge impulses / <br> / <br> Operating temperature: –40 ºC to +85 ºC for types up to 95 VRMS –40 ºC to +125 ºC for types from 115 VRMS / <br> / <br> Response time < 25 ns / <br> / <br> UL1449 3rd Edition, CSA and VDE approved UL: File E332875 CSA: File 224856 VDE: File 40016986 and 40016998 IEC: 60950-1: 2005 Annex Q from ∅ 10 mm / <br> / <br> / <br><b> Applications / <br> / <br></b> 12–48 VDC distribution / <br> / <br> 110–400 V power supply / <br> / <br> Leakage of voltage peaks / <br> / <br> Surge protection in accordance with EN 61000-4-5 / <br> / <br> / <br> / <br><a href="http://katalog.we-online.de/media/images/eisos/VarVD_pf2.jpg" title="Enlarge picture"> / <img src="http://katalog.we-online.de/media/images/eisos/VarVD_pf2.jpg" width="320"></a><p> / Details see: <a href="http://katalog.we-online.de/en/pbs/WE-VD?">http://katalog.we-online.de/en/pbs/WE-VD?</a><p> / Updated  by  Dan Xu 2014-07-11<br> / 2014 (C) Wurth Elektronik
MANUFACTURER: Würth Elektronik eiSos GmbH; CREATED-BY: Christin Zierenner; COMPANY-URL: http://www.we-online.de; CREATED-DATE: May 2012; DATASHEET-URL: http://katalog.we-online.de/kataloge/eisos/index.php?language=en&pf=WE-VD
footprint WE-VD_7MM-3.3
pins: 1, 2

## WE-VD_7MM,820476001
designator RV?, comment <b>WE-VD Disk Varistor / <br> / <br> / <br><b>Characteristics / <br> / <br></b></b> Low clamping voltage / <br> / <br> After a surge impulse the varistor works immediately in normal mode so there is no slip current / <br> / <br> Excellent absorption at surge impulses / <br> / <br> Operating temperature: –40 ºC to +85 ºC for types up to 95 VRMS –40 ºC to +125 ºC for types from 115 VRMS / <br> / <br> Response time < 25 ns / <br> / <br> UL1449 3rd Edition, CSA and VDE approved UL: File E332875 CSA: File 224856 VDE: File 40016986 and 40016998 IEC: 60950-1: 2005 Annex Q from ∅ 10 mm / <br> / <br> / <br><b> Applications / <br> / <br></b> 12–48 VDC distribution / <br> / <br> 110–400 V power supply / <br> / <br> Leakage of voltage peaks / <br> / <br> Surge protection in accordance with EN 61000-4-5 / <br> / <br> / <br> / <br><a href="http://katalog.we-online.de/media/images/eisos/VarVD_pf2.jpg" title="Enlarge picture"> / <img src="http://katalog.we-online.de/media/images/eisos/VarVD_pf2.jpg" width="320"></a><p> / Details see: <a href="http://katalog.we-online.de/en/pbs/WE-VD?">http://katalog.we-online.de/en/pbs/WE-VD?</a><p> / Updated  by  Dan Xu 2014-07-11<br> / 2014 (C) Wurth Elektronik
MANUFACTURER: Würth Elektronik eiSos GmbH; CREATED-BY: Christin Zierenner; COMPANY-URL: http://www.we-online.de; CREATED-DATE: May 2012; DATASHEET-URL: http://katalog.we-online.de/kataloge/eisos/index.php?language=en&pf=WE-VD
footprint WE-VD_7MM-DIA
pins: 1, 2

## WE-VD_7MM,820477501
designator RV?, comment <b>WE-VD Disk Varistor / <br> / <br> / <br><b>Characteristics / <br> / <br></b></b> Low clamping voltage / <br> / <br> After a surge impulse the varistor works immediately in normal mode so there is no slip current / <br> / <br> Excellent absorption at surge impulses / <br> / <br> Operating temperature: –40 ºC to +85 ºC for types up to 95 VRMS –40 ºC to +125 ºC for types from 115 VRMS / <br> / <br> Response time < 25 ns / <br> / <br> UL1449 3rd Edition, CSA and VDE approved UL: File E332875 CSA: File 224856 VDE: File 40016986 and 40016998 IEC: 60950-1: 2005 Annex Q from ∅ 10 mm / <br> / <br> / <br><b> Applications / <br> / <br></b> 12–48 VDC distribution / <br> / <br> 110–400 V power supply / <br> / <br> Leakage of voltage peaks / <br> / <br> Surge protection in accordance with EN 61000-4-5 / <br> / <br> / <br> / <br><a href="http://katalog.we-online.de/media/images/eisos/VarVD_pf2.jpg" title="Enlarge picture"> / <img src="http://katalog.we-online.de/media/images/eisos/VarVD_pf2.jpg" width="320"></a><p> / Details see: <a href="http://katalog.we-online.de/en/pbs/WE-VD?">http://katalog.we-online.de/en/pbs/WE-VD?</a><p> / Updated  by  Dan Xu 2014-07-11<br> / 2014 (C) Wurth Elektronik
MANUFACTURER: Würth Elektronik eiSos GmbH; CREATED-BY: Christin Zierenner; COMPANY-URL: http://www.we-online.de; CREATED-DATE: May 2012; DATASHEET-URL: http://katalog.we-online.de/kataloge/eisos/index.php?language=en&pf=WE-VD
footprint WE-VD_7MM-DIA
pins: 1, 2

## WE-VD_7MM,820479501
designator RV?, comment <b>WE-VD Disk Varistor / <br> / <br> / <br><b>Characteristics / <br> / <br></b></b> Low clamping voltage / <br> / <br> After a surge impulse the varistor works immediately in normal mode so there is no slip current / <br> / <br> Excellent absorption at surge impulses / <br> / <br> Operating temperature: –40 ºC to +85 ºC for types up to 95 VRMS –40 ºC to +125 ºC for types from 115 VRMS / <br> / <br> Response time < 25 ns / <br> / <br> UL1449 3rd Edition, CSA and VDE approved UL: File E332875 CSA: File 224856 VDE: File 40016986 and 40016998 IEC: 60950-1: 2005 Annex Q from ∅ 10 mm / <br> / <br> / <br><b> Applications / <br> / <br></b> 12–48 VDC distribution / <br> / <br> 110–400 V power supply / <br> / <br> Leakage of voltage peaks / <br> / <br> Surge protection in accordance with EN 61000-4-5 / <br> / <br> / <br> / <br><a href="http://katalog.we-online.de/media/images/eisos/VarVD_pf2.jpg" title="Enlarge picture"> / <img src="http://katalog.we-online.de/media/images/eisos/VarVD_pf2.jpg" width="320"></a><p> / Details see: <a href="http://katalog.we-online.de/en/pbs/WE-VD?">http://katalog.we-online.de/en/pbs/WE-VD?</a><p> / Updated  by  Dan Xu 2014-07-11<br> / 2014 (C) Wurth Elektronik
MANUFACTURER: Würth Elektronik eiSos GmbH; CREATED-BY: Christin Zierenner; COMPANY-URL: http://www.we-online.de; CREATED-DATE: May 2012; DATASHEET-URL: http://katalog.we-online.de/kataloge/eisos/index.php?language=en&pf=WE-VD
footprint WE-VD_7MM-DIA
pins: 1, 2

## WE-VD_7MM,820571102
designator RV?, comment <b>WE-VD Disk Varistor / <br> / <br> / <br><b>Characteristics / <br> / <br></b></b> Low clamping voltage / <br> / <br> After a surge impulse the varistor works immediately in normal mode so there is no slip current / <br> / <br> Excellent absorption at surge impulses / <br> / <br> Operating temperature: –40 ºC to +85 ºC for types up to 95 VRMS –40 ºC to +125 ºC for types from 115 VRMS / <br> / <br> Response time < 25 ns / <br> / <br> UL1449 3rd Edition, CSA and VDE approved UL: File E332875 CSA: File 224856 VDE: File 40016986 and 40016998 IEC: 60950-1: 2005 Annex Q from ∅ 10 mm / <br> / <br> / <br><b> Applications / <br> / <br></b> 12–48 VDC distribution / <br> / <br> 110–400 V power supply / <br> / <br> Leakage of voltage peaks / <br> / <br> Surge protection in accordance with EN 61000-4-5 / <br> / <br> / <br> / <br><a href="http://katalog.we-online.de/media/images/eisos/VarVD_pf2.jpg" title="Enlarge picture"> / <img src="http://katalog.we-online.de/media/images/eisos/VarVD_pf2.jpg" width="320"></a><p> / Details see: <a href="http://katalog.we-online.de/en/pbs/WE-VD?">http://katalog.we-online.de/en/pbs/WE-VD?</a><p> / Updated  by  Dan Xu 2014-07-11<br> / 2014 (C) Wurth Elektronik
MANUFACTURER: Würth Elektronik eiSos GmbH; CREATED-BY: Christin Zierenner; COMPANY-URL: http://www.we-online.de; CREATED-DATE: May 2012; DATASHEET-URL: http://katalog.we-online.de/kataloge/eisos/index.php?language=en&pf=WE-VD
footprint WE-VD_7MM-DIA
pins: 1, 2

## WE-VD_7MM,820571111
designator RV?, comment <b>WE-VD Disk Varistor / <br> / <br> / <br><b>Characteristics / <br> / <br></b></b> Low clamping voltage / <br> / <br> After a surge impulse the varistor works immediately in normal mode so there is no slip current / <br> / <br> Excellent absorption at surge impulses / <br> / <br> Operating temperature: –40 ºC to +85 ºC for types up to 95 VRMS –40 ºC to +125 ºC for types from 115 VRMS / <br> / <br> Response time < 25 ns / <br> / <br> UL1449 3rd Edition, CSA and VDE approved UL: File E332875 CSA: File 224856 VDE: File 40016986 and 40016998 IEC: 60950-1: 2005 Annex Q from ∅ 10 mm / <br> / <br> / <br><b> Applications / <br> / <br></b> 12–48 VDC distribution / <br> / <br> 110–400 V power supply / <br> / <br> Leakage of voltage peaks / <br> / <br> Surge protection in accordance with EN 61000-4-5 / <br> / <br> / <br> / <br><a href="http://katalog.we-online.de/media/images/eisos/VarVD_pf2.jpg" title="Enlarge picture"> / <img src="http://katalog.we-online.de/media/images/eisos/VarVD_pf2.jpg" width="320"></a><p> / Details see: <a href="http://katalog.we-online.de/en/pbs/WE-VD?">http://katalog.we-online.de/en/pbs/WE-VD?</a><p> / Updated  by  Dan Xu 2014-07-11<br> / 2014 (C) Wurth Elektronik
MANUFACTURER: Würth Elektronik eiSos GmbH; CREATED-BY: Christin Zierenner; COMPANY-URL: http://www.we-online.de; CREATED-DATE: May 2012; DATASHEET-URL: http://katalog.we-online.de/kataloge/eisos/media/pdf/820571111.pdf
footprint WE-VD_7MM-DIA
pins: 1, 2